# EAGLE library part AS5600-ASOT (library AS5600-ASOT)
Board Mount Hall Effect / Magnetic Sensors AS5600 Magnetic Sensor 12-Bit Source: Datasheet <https://datasheet.datasheetarchive.com/originals/distributors/DKDS-11/214624.pdf> Check availability <https://pricing.snapeda.com/parts/AS5600-ASOT/ams/view-part?ref=eda>
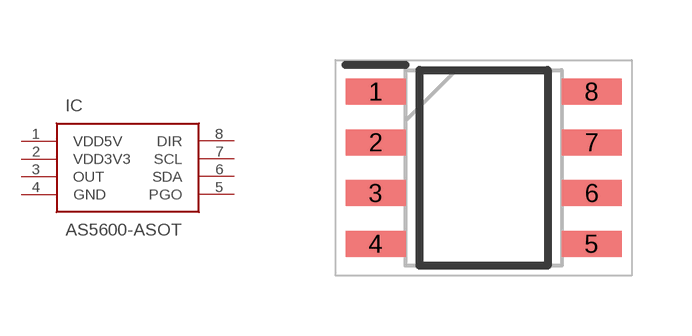
[diagram p0: symbol with the pads of SOIC127P600X175-8N; footprint SOIC127P600X175-8N]

Designator prefix IC

## AS5600-ASOT (Availability: In Stock; Description: Hall Effect Sensor Angle External Magnet, Not Included Gull Wing; MF: ams; MP: AS5600-ASOT; Package: SOIC-8 ams; Price: None; Purchase-URL: https://pricing.snapeda.com/search?q=AS5600-ASOT&ref=eda)  [SOIC127P600X175-8N]
1  VDD5V
2  VDD3V3
3  OUT
4  GND
5  PGO
6  SDA
7  SCL
8  DIR

## Footprint SOIC127P600X175-8N (pad centres in mm)
SOIC-8
smd 1.5 x 0.65: 1 -2.7,1.905; 2 -2.7,0.635; 3 -2.7,-0.635; 4 -2.7,-1.905; 5 2.7,-1.905; 6 2.7,-0.635; 7 2.7,0.635; 8 2.7,1.905